# Altium schematic symbol library Diodes Schottky.SchLib: 19 symbols
Pins are listed as number, name and electrical type; pins without a type are passive.

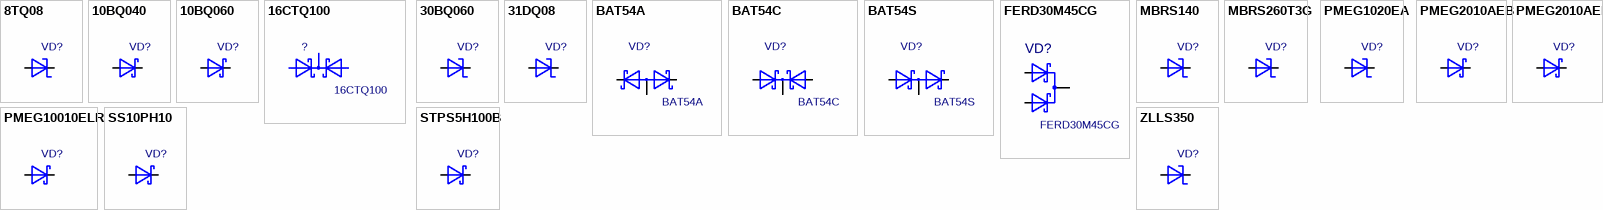
[diagram p0: symbols 8TQ08 to ZLLS350]

## 8TQ08
designator VD?  (value not drawn)
8TQ08; Value: *
footprint TO-220AC_Primary
footprint TO-220AC_TO-220AC-1
footprint TO-220AC_TO-220AC-R
footprint TO-220AC_TO-220AC-R1
pins: 1 A, 2 K

## 10BQ040
designator VD?  (value not drawn)
10BQ040; Value: *
footprint SMB
pins: 1, 2

## 10BQ060
designator VD?  (value not drawn)
10BQ060; Value: *
footprint DO-214AA SMB
pins: 1, 2

## 16CTQ100
designator ?
Value: *
footprint TO-220AB_Primary
footprint TO-220AB_TO-200AB-R
footprint TO-220AB_TO-200AB-R1
footprint TO-220AB_TO-220AB-1
footprint TO-220AB_TO-220AB-2
pins: 1 A, 2 A, 3 K

## 30BQ060
designator VD?  (value not drawn)
30BQ060; Value: *
footprint DO-214AB SMC
pins: 1 A, 2 K

## 31DQ08
designator VD?  (value not drawn)
31DQ08; Value: *
footprint D700_AXIAL
pins: 1, 2

## BAT54A
designator VD?
30V, 200mA, Schottky Diodes; Value: *
footprint SOT-23
pins: 1 A, 2 K, 3 C

## BAT54C
designator VD?
30V, 200mA, Schottky Diodes; Value: *
footprint SOT-23
pins: 1 A, 2 K, 3 C

## BAT54S
designator VD?
30V, 200mA, Schottky Diodes; Value: *
footprint SOT-23
pins: 1 A, 2 K, 3 C

## FERD30M45CG
designator VD?
Value: *
footprint D2PAK TO-263-2
pins: 1 A1, 2 A2, 3 K

## MBRS140
designator VD?  (value not drawn)
MBRS140; Value: *
footprint DO-214AA SMB
pins: 1, 2

## MBRS260T3G
designator VD?  (value not drawn)
MBRS260T3G; Value: *
footprint SMB
pins: 1, 2

## PMEG1020EA
designator VD?  (value not drawn)
PMEG1020EA; Value: *
footprint SOD323 (SC-76)
pins: 1, 2

## PMEG2010AEB
designator VD?  (value not drawn)
PMEG2010AEB; Value: *
footprint SOD523
pins: 1, 2

## PMEG2010AEH
designator VD?  (value not drawn)
PMEG2010AEH; Value: *
footprint SOD123F
pins: 1, 2

## PMEG10010ELR
designator VD?  (value not drawn)
100 V, 1 A low leakage current Schottky barrier rectifier; Value: *
footprint SOD123W
pins: 1, 2

## SS10PH10
designator VD?  (value not drawn)
High voltage power Schottky rectifier 100V 10A 175 °C; Value: *
footprint SMPC (TO-277A) SINGLE
pins: 1 A, 3 C

## STPS5H100B
designator VD?  (value not drawn)
High voltage power Schottky rectifier 100V 5A 175 °C; Value: *
footprint D-PAK (TO-252)
pins: 2, 3

## ZLLS350
designator VD?  (value not drawn)
40V LOW LEAKAGE SCHOTTKY DIODE; Value: *
footprint SOD-523 (Footprint not found)
pins: 1, 2